# Altium footprint library PCB - SWITCH - C&K KMR7.PcbLib: 1 footprints
Each footprint in its own frame and in the unit in brackets; x right, y up, seen from the top. Pads: shape width x height; smd on the part's side, far side on the other; paste and mask are expansions set on the pad; w line width, h text height; cw(c..) or ccw(c..) is an arc to the next point about the centre after c.
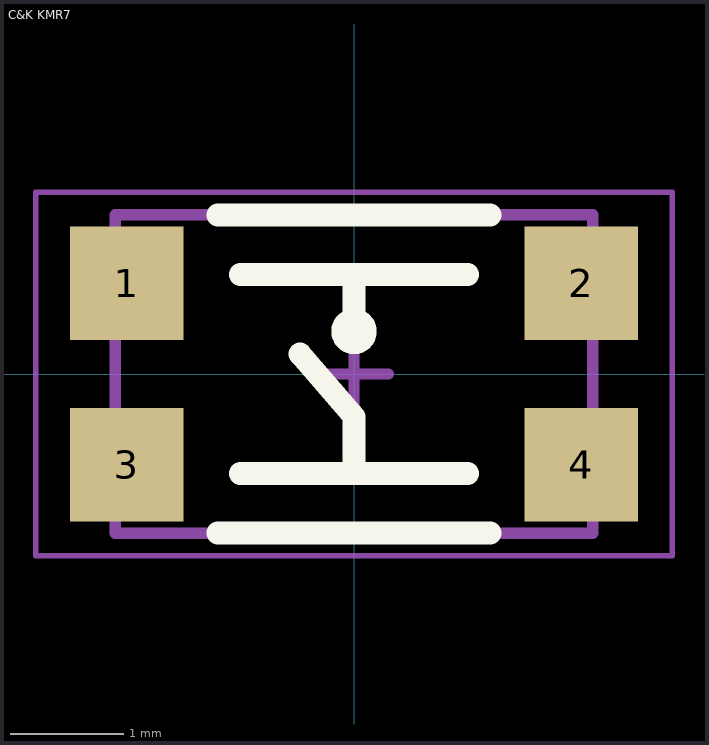
[diagram p0: the footprint, top view; thin cyan lines are the x and y axes]

## C&K KMR7 [mm] "T-Switch, 4-leads, body 4.2x2.8mm, C&K KMR741NG ULC LFS"
height 2.5
pads (4):
  rect 1x1 smd mask+0.1: 1(-2,0.8) 2(2,0.8) 3(-2,-0.8) 4(2,-0.8)
Top Overlay:
  circle w0.2: c0,0.375 r0.1
  lines w0.2: -1.2,-1.4 1.2,-1.4 ; -1.2,1.4 1.2,1.4 ; -1,-0.875 1,-0.875 ; -1,0.875 1,0.875 ; -0.475,0.175 0,-0.375 0,-0.875 ; 0,0.375 0,0.875
Mechanical 13:
  lines w0.1: -2.1,-1.4 2.1,-1.4 2.1,1.4 -2.1,1.4 -2.1,-1.4
Mechanical 15 (Mech15):
  lines w0.05: -2.8,-1.6 2.8,-1.6 2.8,1.6 -2.8,1.6 -2.8,-1.6
  lines w0.1: -0.3,0 0.3,0 ; 0,-0.3 0,0.3
3D body "C&K - KMR7.step": height 2.5, standoff 0, extent -2.3,-1.4 2.3,1.4